# Altium schematic symbol library WURTH_157142S12803.SchLib: 1 symbol
Pins are listed as number, name and electrical type; pins without a type are passive.

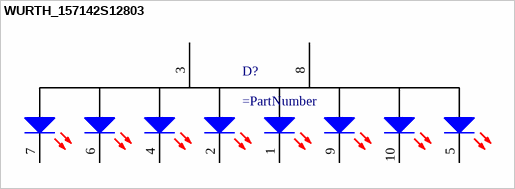
[diagram p0: symbol WURTH_157142S12803]

## WURTH_157142S12803
designator D?
pins: 1 E, 2 D, 3 A, 4 C, 5 DP, 6 B, 7 A, 8 A, 9 F, 10 G